# Altium footprint library TE_8-534998-0.PcbLib: 1 footprints
Each footprint in its own frame and in the unit in brackets; x right, y up, seen from the top. Pads: shape width x height; smd on the part's side, far side on the other; paste and mask are expansions set on the pad; w line width, h text height; cw(c..) or ccw(c..) is an arc to the next point about the centre after c.
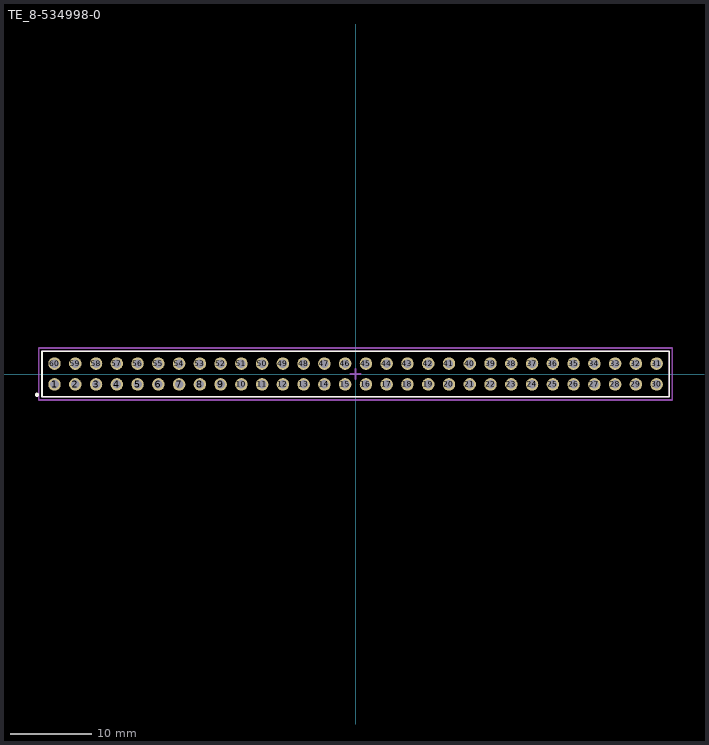
[diagram p0: the footprint, top view; thin cyan lines are the x and y axes]

## TE_8-534998-0 [mil]
pads (60):
  round 60 hole 41: 1(-1450,-50) 2(-1350,-50) 3(-1250,-50) 4(-1150,-50) 5(-1050,-50) 6(-950,-50) 7(-850,-50) 8(-750,-50) 9(-650,-50) 10(-550,-50) 11(-450,-50) 12(-350,-50) 13(-250,-50) 14(-150,-50) 15(-50,-50) 16(50,-50) 17(150,-50) 18(250,-50) 19(350,-50) 20(450,-50) 21(550,-50) 22(650,-50) 23(750,-50) 24(850,-50) 25(950,-50) 26(1050,-50) 27(1150,-50) 28(1250,-50) 29(1350,-50) 30(1450,-50) 31(1450,50) 32(1350,50) 33(1250,50) 34(1150,50) 35(1050,50) 36(950,50) 37(850,50) 38(750,50) 39(650,50) 40(550,50) 41(450,50) 42(350,50) 43(250,50) 44(150,50) 45(50,50) 46(-50,50) 47(-150,50) 48(-250,50) 49(-350,50) 50(-450,50) 51(-550,50) 52(-650,50) 53(-750,50) 54(-850,50) 55(-950,50) 56(-1050,50) 57(-1150,50) 58(-1250,50) 59(-1350,50) 60(-1450,50)
Top Overlay:
  circle w10: c-1535,-100 r5
  lines w7.87: -1510,-110 1510,-110 1510,110 -1510,110 -1510,-110
Mechanical 15:
  lines w7.87: -25,0 25,0 ; 0,-25 0,25 ; -1525,-125 -1525,125 1525,125 1525,-125 -1525,-125
Mechanical 17:
  lines w7.87: -1510,-110 -1510,110 1510,110 1510,-110 -1510,-110
  text ".Designator" at -1125,-75 h60
Mechanical 19:
  lines w7.87: -1510,-110 -1510,110 1510,110 1510,-110 -1510,-110
  text ".Comment" at -1125,-75 h60
3D body: height 265, standoff -125, extent -1499.99,-98.99 1500.01,99.01